# Altium schematic symbol library MCP73833-BZI_MF.Schlib: 1 symbol
Pins are listed as number, name and electrical type; pins without a type are passive.

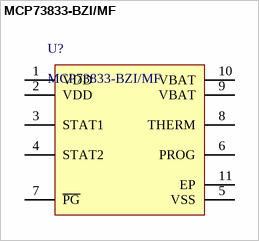
[diagram p0: symbol MCP73833-BZI/MF]

## MCP73833-BZI/MF
designator U?
Charger IC Lithium Ion/Polymer 10-DFN (3x3)
pins: 1 VDD, 2 VDD, 3 STAT1, 4 STAT2, 5 VSS, 6 PROG, 7 ~{PG}, 8 THERM, 9 VBAT, 10 VBAT, 11 EP